# EAGLE library part ATTINY10 (library bschulz)
ATtiny10 8 bit AVR Microcontroller Features: Vcc: 1.8 ~ 5.5V Clock: Up to 12MHz, Internal 8MHz FRC, 128kHz RC Flash Memory: 1024B SRAM: 32B ADC: 8b, 4 port Digikey: ATTINY10-TSHRCT-ND (SOT23) <https://www.digikey.com/product-detail/en/microchip-technology/ATTINY10-TSHR/ATTINY10-TSHRCT-ND/2136158> ATTINY10-MAHRCT-ND (UDFN) <https://www.digikey.com/product-detail/en/microchip-technology/ATTINY10-MAHR/ATTINY10-MAHRCT-ND/2774321>
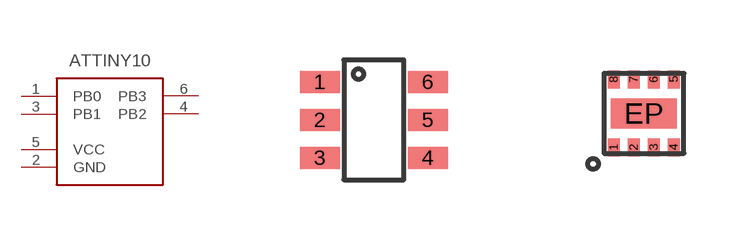
[diagram p60: symbol with the pads of SOT23-6; footprints SOT23-6, UDFN-8-2X2]

Designator prefix -

## ATTINY10SOT23 (DIGIKEY: ATTINY10-TSHRCT-ND; MF: Atmel; MPN: ATTINY10-TSHR)  [SOT23-6]
1  PB0
2  GND
3  PB1
4  PB2
5  VCC
6  PB3

## ATTINY10UDFN (DIGIKEY: ATTINY10-MAHRCT-ND; MF: Atmel; MPN: ATTINY10-MAHR)  [UDFN-8-2X2]
1  PB1
4  GND
5  PB0
6  PB3
7  VCC
8  PB2
EP  GND

## Footprint SOT23-6 (pad centres in mm)
smd 1 x 0.55: 1 -1.35,0.95; 2 -1.35,0; 3 -1.35,-0.95; 4 1.35,-0.95; 5 1.35,0; 6 1.35,0.95

## Footprint UDFN-8-2X2 (pad centres in mm)
smd 0.3 x 0.45: 1 -0.75,-0.85; 2 -0.25,-0.85; 3 0.25,-0.85; 4 0.75,-0.85; 5 0.75,0.85; 6 0.25,0.85; 7 -0.25,0.85; 8 -0.75,0.85
smd 1.65 x 0.75: EP 0,0